# Altium footprint library isd.PCBLIB: 2 footprints
Each footprint in its own frame and in the unit in brackets; x right, y up, seen from the top. Pads: shape width x height; smd on the part's side, far side on the other; paste and mask are expansions set on the pad; w line width, h text height; cw(c..) or ccw(c..) is an arc to the next point about the centre after c.
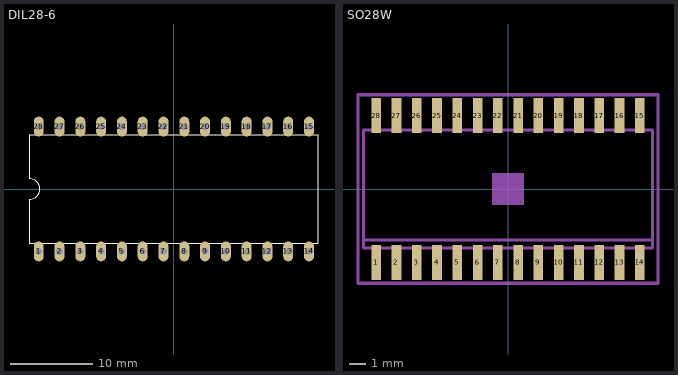
[diagram p0: the footprints below, top view; thin cyan lines are the x and y axes]

## DIL28-6 [mil]
pads (28):
  oval 48x96 hole 32: 1(-650,-300) 2(-550,-300) 3(-450,-300) 4(-350,-300) 5(-250,-300) 6(-150,-300) 7(-50,-300) 8(50,-300) 9(150,-300) 10(250,-300) 11(350,-300) 12(450,-300) 13(550,-300) 14(650,-300) 15(650,300) 16(550,300) 17(450,300) 18(350,300) 19(250,300) 20(150,300) 21(50,300) 22(-50,300) 23(-150,300) 24(-250,300) 25(-350,300) 26(-450,300) 27(-550,300) 28(-650,300)
Top Overlay:
  lines w6: -695,-260 -695,-50 ccw(c-695,0) -695,50 -695,260 695,260 695,-260 -695,-260

## SO28W [mil]
pads (28):
  rect 23.62x86.61 smd: 1(-325,-181.1) 2(-275,-181.1) 3(-225,-181.1) 4(-175,-181.1) 5(-125,-181.1) 6(-75,-181.1) 7(-25,-181.1) 8(25,-181.1) 9(75,-181.1) 10(125,-181.1) 11(175,-181.1) 12(225,-181.1) 13(275,-181.1) 14(325,-181.1) 15(325,181.1) 16(275,181.1) 17(225,181.1) 18(175,181.1) 19(125,181.1) 20(75,181.1) 21(25,181.1) 22(-25,181.1) 23(-75,181.1) 24(-125,181.1) 25(-175,181.1) 26(-225,181.1) 27(-275,181.1) 28(-325,181.1)
Mechanical 6:
  rectangle: -39.37,-39.37 39.37,39.37
Mechanical 16:
  rectangle: -334.65,-209.45 -315.35,-149.61
  rectangle: -284.65,-209.45 -265.35,-149.61
  rectangle: -234.65,-209.45 -215.35,-149.61
  rectangle: -184.65,-209.45 -165.35,-149.61
  rectangle: -134.65,-209.45 -115.35,-149.61
  rectangle: -84.65,-209.45 -65.35,-149.61
  rectangle: -34.65,-209.45 -15.35,-149.61
  rectangle: 15.35,-209.45 34.65,-149.61
  rectangle: 65.35,-209.45 84.65,-149.61
  rectangle: 115.35,-209.45 134.65,-149.61
  rectangle: 165.35,-209.45 184.65,-149.61
  rectangle: 215.35,-209.45 234.65,-149.61
  rectangle: 265.35,-209.45 284.65,-149.61
  rectangle: 315.35,-209.45 334.65,-149.61
  rectangle: 315.35,149.61 334.65,209.45
  rectangle: 265.35,149.61 284.65,209.45
  rectangle: 215.35,149.61 234.65,209.45
  rectangle: 165.35,149.61 184.65,209.45
  rectangle: 115.35,149.61 134.65,209.45
  rectangle: 65.35,149.61 84.65,209.45
  rectangle: 15.35,149.61 34.65,209.45
  rectangle: -34.65,149.61 -15.35,209.45
  rectangle: -84.65,149.61 -65.35,209.45
  rectangle: -134.65,149.61 -115.35,209.45
  rectangle: -184.65,149.61 -165.35,209.45
  rectangle: -234.65,149.61 -215.35,209.45
  rectangle: -284.65,149.61 -265.35,209.45
  rectangle: -334.65,149.61 -315.35,209.45
  lines w8: -356.3,-125.98 -356.3,-145.67 356.3,-145.67 356.3,-125.98 ; -356.3,-125.98 -356.3,145.67 356.3,145.67 356.3,-125.98 ; -356.3,-125.98 356.3,-125.98
Mechanical 27:
  lines w7.87: -369.88,-232.28 369.88,-232.28 369.88,232.28 -369.88,232.28 -369.88,-232.28